# Altium footprint library LibZynqEvalBoard.PcbLib: 75 footprints (part 1 of 5)
Each footprint in its own frame and in the unit in brackets; x right, y up, seen from the top. Pads: shape width x height; smd on the part's side, far side on the other; paste and mask are expansions set on the pad; w line width, h text height; cw(c..) or ccw(c..) is an arc to the next point about the centre after c.
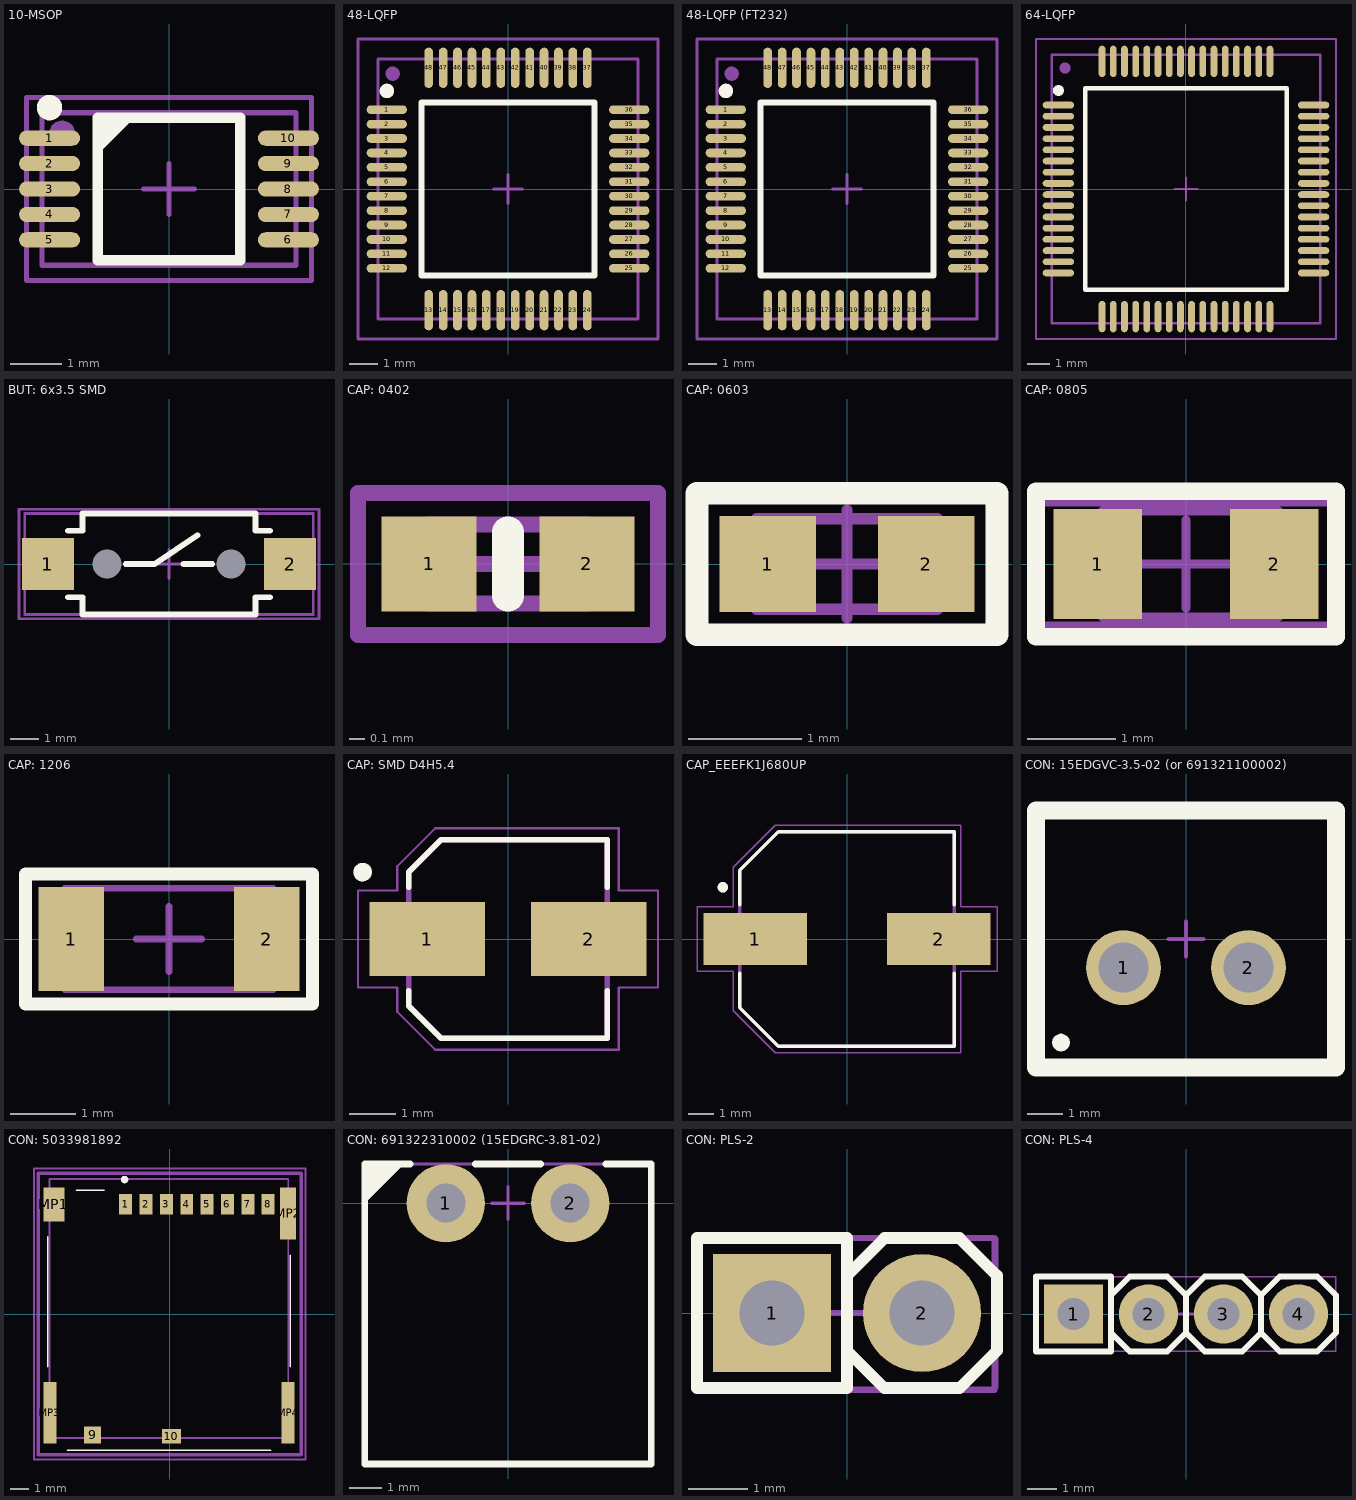
[diagram p0: the footprints below, top view; thin cyan lines are the x and y axes]

## 10-MSOP [mm] "3x3 mm, pitch 0.5 mm"
height 1.1
pads (11):
  rrect100% 1.2x0.3 smd: 1(-2.35,1) 2(-2.35,0.5) 3(-2.35,0) 4(-2.35,-0.5) 5(-2.35,-1) 6(2.35,-1) 7(2.35,-0.5) 8(2.35,0) 9(2.35,0.5) 10(2.35,1)
  round 0.5 on Mech1: ""(-2.1,1.1)
Top Overlay:
  circle w0.25: c-2.35,1.6 r0.125
  region: -1.4,1.4 -1.4,0.68 -0.68,1.4
  lines w0.2: -1.4,-1.4 -1.4,1.4 1.4,1.4 1.4,-1.4 -1.4,-1.4
Top Assembly:
  lines w0.1: -2.5,-1.5 2.5,-1.5 2.5,1.5 -2.5,1.5 -2.5,-1.5
Mechanical 15:
  lines w0.1: -0.5,0 0.5,0 ; 0,-0.5 0,0.5 ; -2.8,-1.8 -2.8,1.8 2.8,1.8 2.8,-1.8 -2.8,-1.8
3D body "TSSOP-10.STEP": height 1.1, standoff 0, extent -2.5,-1.5 2.5,1.5

## 48-LQFP [mm] "QFP, 48-Leads, Body 7x7mm, Pitch 0.5mm, IPC Medium Density"
height 1.6
pads (49):
  oval 1.4x0.3 smd: 1(-4.2,2.75) 2(-4.2,2.25) 3(-4.2,1.75) 4(-4.2,1.25) 5(-4.2,0.75) 6(-4.2,0.25) 7(-4.2,-0.25) 8(-4.2,-0.75) 9(-4.2,-1.25) 10(-4.2,-1.75) 11(-4.2,-2.25) 12(-4.2,-2.75) 25(4.2,-2.75) 26(4.2,-2.25) 27(4.2,-1.75) 28(4.2,-1.25) 29(4.2,-0.75) 30(4.2,-0.25) 31(4.2,0.25) 32(4.2,0.75) 33(4.2,1.25) 34(4.2,1.75) 35(4.2,2.25) 36(4.2,2.75)
  oval 0.3x1.4 smd: 13(-2.75,-4.2) 14(-2.25,-4.2) 15(-1.75,-4.2) 16(-1.25,-4.2) 17(-0.75,-4.2) 18(-0.25,-4.2) 19(0.25,-4.2) 20(0.75,-4.2) 21(1.25,-4.2) 22(1.75,-4.2) 23(2.25,-4.2) 24(2.75,-4.2) 37(2.75,4.2) 38(2.25,4.2) 39(1.75,4.2) 40(1.25,4.2) 41(0.75,4.2) 42(0.25,4.2) 43(-0.25,4.2) 44(-0.75,4.2) 45(-1.25,4.2) 46(-1.75,4.2) 47(-2.25,4.2) 48(-2.75,4.2)
  round 0.5 on Mech1: ""(-4,4)
Top Overlay:
  circle w0.25: c-4.2,3.4 r0.125
  lines w0.2: -3,-3 -3,3 3,3 3,-3 -3,-3
Top Assembly:
  lines w0.1: -4.5,-4.5 -4.5,4.5 4.5,4.5 4.5,-4.5 -4.5,-4.5
Mechanical 15:
  lines w0.1: -0.5,0 0.5,0 ; 0,-0.5 0,0.5 ; -5.2,-5.2 -5.2,5.2 5.2,5.2 5.2,-5.2 -5.2,-5.2
3D body "STM32F334.step": height 1.6, standoff 0, extent -4.5,-4.5 4.5,4.5

## 48-LQFP (FT232) [mm] "QFP, 48-Leads, Body 7x7mm, Pitch 0.5mm, IPC Medium Density"
height 1.6
pads (49):
  oval 1.4x0.3 smd: 1(-4.2,2.75) 2(-4.2,2.25) 3(-4.2,1.75) 4(-4.2,1.25) 5(-4.2,0.75) 6(-4.2,0.25) 7(-4.2,-0.25) 8(-4.2,-0.75) 9(-4.2,-1.25) 10(-4.2,-1.75) 11(-4.2,-2.25) 12(-4.2,-2.75) 25(4.2,-2.75) 26(4.2,-2.25) 27(4.2,-1.75) 28(4.2,-1.25) 29(4.2,-0.75) 30(4.2,-0.25) 31(4.2,0.25) 32(4.2,0.75) 33(4.2,1.25) 34(4.2,1.75) 35(4.2,2.25) 36(4.2,2.75)
  oval 0.3x1.4 smd: 13(-2.75,-4.2) 14(-2.25,-4.2) 15(-1.75,-4.2) 16(-1.25,-4.2) 17(-0.75,-4.2) 18(-0.25,-4.2) 19(0.25,-4.2) 20(0.75,-4.2) 21(1.25,-4.2) 22(1.75,-4.2) 23(2.25,-4.2) 24(2.75,-4.2) 37(2.75,4.2) 38(2.25,4.2) 39(1.75,4.2) 40(1.25,4.2) 41(0.75,4.2) 42(0.25,4.2) 43(-0.25,4.2) 44(-0.75,4.2) 45(-1.25,4.2) 46(-1.75,4.2) 47(-2.25,4.2) 48(-2.75,4.2)
  round 0.5 on Mech1: ""(-4,4)
Top Overlay:
  circle w0.25: c-4.2,3.4 r0.125
  lines w0.2: -3,-3 3,-3 3,3 -3,3 -3,-3
Top Assembly:
  lines w0.1: -4.5,-4.5 4.5,-4.5 4.5,4.5 -4.5,4.5 -4.5,-4.5
Mechanical 15:
  lines w0.1: -0.5,0 0.5,0 ; 0,-0.5 0,0.5 ; -5.2,-5.2 5.2,-5.2 5.2,5.2 -5.2,5.2 -5.2,-5.2
3D body "User Library-FT232HL.step": height 1.53, standoff 0, extent -4.5,-4.512 4.5,4.362

## 64-LQFP [mm] "Thin QFP, 64-Leads, Body 10x10mm, Pitch 0.5mm, IPC Medium Density"
height 1.6
pads (66):
  oval 1.4x0.3 smd: 1(-5.7,3.75) 2(-5.7,3.25) 3(-5.7,2.75) 4(-5.7,2.25) 5(-5.7,1.75) 6(-5.7,1.25) 7(-5.7,0.75) 8(-5.7,0.25) 9(-5.7,-0.25) 10(-5.7,-0.75) 11(-5.7,-1.25) 12(-5.7,-1.75) 13(-5.7,-2.25) 14(-5.7,-2.75) 15(-5.7,-3.25) 16(-5.7,-3.75) 33(5.7,-3.75) 34(5.7,-3.25) 35(5.7,-2.75) 36(5.7,-2.25) 37(5.7,-1.75) 38(5.7,-1.25) 39(5.7,-0.75) 40(5.7,-0.25) 41(5.7,0.25) 42(5.7,0.75) 43(5.7,1.25) 44(5.7,1.75) 45(5.7,2.25) 46(5.7,2.75) 47(5.7,3.25) 48(5.7,3.75)
  oval 0.3x1.4 smd: 17(-3.75,-5.7) 18(-3.25,-5.7) 19(-2.75,-5.7) 20(-2.25,-5.7) 21(-1.75,-5.7) 22(-1.25,-5.7) 23(-0.75,-5.7) 24(-0.25,-5.7) 25(0.25,-5.7) 26(0.75,-5.7) 27(1.25,-5.7) 28(1.75,-5.7) 29(2.25,-5.7) 30(2.75,-5.7) 31(3.25,-5.7) 32(3.75,-5.7) 49(3.75,5.7) 50(3.25,5.7) 51(2.75,5.7) 52(2.25,5.7) 53(1.75,5.7) 54(1.25,5.7) 55(0.75,5.7) 56(0.25,5.7) 57(-0.25,5.7) 58(-0.75,5.7) 59(-1.25,5.7) 60(-1.75,5.7) 61(-2.25,5.7) 62(-2.75,5.7) 63(-3.25,5.7) 64(-3.75,5.7)
  round 0.5 on Top Overlay: ""(-5.7,4.4)
  round 0.5 on Mech1: ""(-5.4,5.4)
Top Overlay:
  lines w0.2: -4.5,-4.5 -4.5,4.5 4.5,4.5 4.5,-4.5 -4.5,-4.5
Top Assembly:
  lines w0.1: -6,-6 -6,6 6,6 6,-6 -6,-6
Mechanical 15:
  lines w0.1: -0.5,0 0.5,0 ; 0,-0.5 0,0.5 ; -6.7,-6.7 -6.7,6.7 6.7,6.7 6.7,-6.7 -6.7,-6.7
3D body "stm32g474.step": height 1.6, standoff 0, extent -6,-6 6,6

## BUT: 6x3.5 SMD [mm]
pads (4):
  rect 1.8x1.8 smd mask+0.075: 1(-4.2,0) 2(4.2,0)
  round 0 hole 1 mask+0.075: ""(-2.15,0) ""(2.15,0)
Top Overlay:
  lines w0.2: -3.5,-1.15 -3,-1.15 -3,-1.75 3,-1.75 3,-1.15 3.5,-1.15 ; -3.5,1.15 -3,1.15 -3,1.75 3,1.75 3,1.15 3.5,1.15 ; -1.5,0 -0.5,0 1,1 ; 0.5,0 1.5,0
Top Assembly:
  lines w0.1: -1.5,0 -0.5,0 1,1 ; 0.5,0 1.25,0 ; -5,-1.75 -5,1.75 5,1.75 5,-1.75 -5,-1.75
Mechanical 15:
  lines w0.1: -0.5,0 0.5,0 ; 0,-0.5 0,0.5 ; -5.2,-1.9 -5.2,1.9 5.2,1.9 5.2,-1.9 -5.2,-1.9
3D body "User Library-DTSMF-32.STEP": height 5.05, standoff 0, extent -5,-1.75 5,1.75

## CAP: 0402 [mm]
height 0.35
pads (2):
  rect 0.6x0.6 smd: 1(-0.5,0) 2(0.5,0)
Top Overlay:
  lines w0.2: 0,-0.2 0,0.2
Top Assembly:
  lines w0.1: -0.5,-0.25 0.5,-0.25 0.5,0.25 -0.5,0.25 -0.5,-0.25
Mechanical 15:
  lines w0.1: -0.25,0 0.25,0 ; 0,-0.25 0,0.25 ; -0.95,-0.45 0.95,-0.45 0.95,0.45 -0.95,0.45 -0.95,-0.45
3D body "chip_0402_r.STEP": height 0.34, standoff -0.02, extent -0.525,-0.25 0.475,0.25
3D body "User Library-0402(1005M) Cap.step": height 0.51, standoff 0, extent -0.508,-0.254 0.508,0.254

## CAP: 0603 [mm]
height 0.45
pads (2):
  rect 0.85x0.85 smd: 1(-0.7,0) 2(0.7,0)
Top Overlay:
  lines w0.2: -1.325,-0.625 -1.325,0.625 1.325,0.625 1.325,-0.625 -1.325,-0.625
Top Assembly:
  lines w0.1: -0.8,-0.4 -0.8,0.4 0.8,0.4 0.8,-0.4 -0.8,-0.4
Mechanical 15:
  lines w0.1: -0.475,0 0.475,0 ; 0,-0.475 0,0.475 ; -1.325,-0.625 1.325,-0.625 1.325,0.625 -1.325,0.625 -1.325,-0.625
3D body "SW3dPS-0603 SMD Capacitor.STEP": height 0.3, standoff 0, extent -0.8,-0.4 0.8,0.4

## CAP: 0805 [mm]
height 0.45
pads (2):
  rect 1x1.25 smd: 1(-1,0) 2(1,0)
Top Overlay:
  lines w0.2: -1.7,-0.825 -1.7,0.825 1.7,0.825 1.7,-0.825 -1.7,-0.825
Top Assembly:
  lines w0.1: -0.949,-0.6 -0.949,0.6 1.05,0.6 1.05,-0.6 -0.949,-0.6
Mechanical 15:
  lines w0.1: -0.5,0 0.5,0 ; 0,-0.5 0,0.5 ; -1.7,-0.7 1.7,-0.7 1.7,0.7 -1.7,0.7 -1.7,-0.7
3D body "SW3dPS-0805 SMD Capacitor.STEP": height 0.78, standoff 0, extent -1,-0.625 1,0.625

## CAP: 1206 [mm]
height 0.6
pads (2):
  rect 1x1.6 smd: 1(-1.5,0) 2(1.5,0)
Top Overlay:
  lines w0.2: -2.2,-1 -2.2,1 2.2,1 2.2,-1 -2.2,-1
Top Assembly:
  lines w0.1: -1.6,-0.775 -1.6,0.775 1.6,0.775 1.6,-0.775 -1.6,-0.775
Mechanical 15:
  lines w0.1: -0.5,0 0.5,0 ; 0,-0.5 0,0.5 ; -2.2,-1 2.2,-1 2.2,1 -2.2,1 -2.2,-1
3D body "SW3dPS-1206 SMD Capacitor.STEP": height 1, standoff 0, extent -1.6,-0.8 1.6,0.8

## CAP: SMD D4H5.4 [mm]
pads (2):
  rect 2.5x1.6 smd: 1(-1.75,0) 2(1.75,0)
Top Overlay:
  circle w0.2: c-3.15,1.45 r0.1
  lines w0.127: -2.15,-1.12 -2.15,-1.45 -1.45,-2.15 2.15,-2.15 2.15,-1.12 ; -2.15,1.12 -2.15,1.45 -1.45,2.15 2.15,2.15 2.15,1.12
Top Assembly:
  circle w0.2: c-3.15,1.45 r0.1
  lines w0.127: -2.15,-1.45 -1.45,-2.15 2.15,-2.15 2.15,2.15 -1.45,2.15 -2.15,1.45 -2.15,-1.45
  text ".Designator" at -5.431,4.056 h3
Mechanical 15:
  lines w0.05: -3.25,-1.05 -2.4,-1.05 -2.4,-1.575 -1.575,-2.4 2.4,-2.4 2.4,-1.05 3.25,-1.05 3.25,1.05 2.4,1.05 2.4,2.4 -1.575,2.4 -2.4,1.575 -2.4,1.05 -3.25,1.05 -3.25,-1.05
3D body "step_temp.STEP": height 5.8, standoff 0, extent -2.5,-2.15 2.5,2.15

## CAP_EEEFK1J680UP [mm]
pads (2):
  rect 4x2 smd: 1(-3.55,0) 2(3.55,0)
Top Overlay:
  circle w0.2: c-4.8,2 r0.1
  lines w0.127: -4.15,-1.32 -4.15,-2.65 -2.65,-4.15 4.15,-4.15 4.15,-1.32 ; -4.15,1.32 -4.15,2.65 -2.65,4.15 4.15,4.15 4.15,1.32
Top 3D Body (Mech13):
  circle w0.2: c-4.8,2 r0.1
  lines w0.127: -4.15,-2.65 -2.65,-4.15 4.15,-4.15 4.15,4.15 -2.65,4.15 -4.15,2.65 -4.15,-2.65
Mechanical 15:
  lines w0.05: -5.8,-1.25 -5.8,1.25 -4.4,1.25 -4.4,2.775 -2.775,4.4 4.4,4.4 4.4,1.25 5.8,1.25 5.8,-1.25 4.4,-1.25 4.4,-4.4 -2.775,-4.4 -4.4,-2.775 -4.4,-1.25 -5.8,-1.25
3D body "step_temp.STEP": height 10.2, standoff 0, extent -4.85,-4.15 4.85,4.15

## CON: 15EDGVC-3.5-02 (or 691321100002) [mm] "Vertical PCB Header, pitch 3.5mm, 02p"
height 9.2
pads (3):
  round 2.1 hole 1.4: 1(-1.75,-0.8) 2(1.75,-0.8)
  round 0.5 on Top Overlay: ""(-3.5,-2.9)
Top Overlay:
  lines w0.5: -4.2,-3.6 4.2,-3.6 4.2,3.6 -4.2,3.6 -4.2,-3.6
Top 3D Body (Mech13):
  lines w0.1: -4.2,-3.6 -4.2,3.6 4.2,3.6 4.2,-3.6 -4.2,-3.6
Mechanical 15:
  lines w0.1: -0.5,0 0.5,0 ; 0,-0.5 0,0.5 ; -4.2,-3.6 4.2,-3.6 4.2,3.6 -4.2,3.6 -4.2,-3.6
3D body "691321100002.stp": height 9.3, standoff -3.4, extent -4.2,-3.6 4.2,3.6

## CON: 5033981892 [mm]
pads (14):
  rect 0.7x1.1 smd: 1(-2.38,5.933) 2(-1.28,5.933) 3(-0.18,5.933) 4(0.92,5.933) 5(2.02,5.933) 6(3.12,5.933) 7(4.22,5.933) 8(5.32,5.933)
  rect 0.9x0.93 smd: 9(-4.17,-6.532)
  rect 1.05x0.78 smd: 10(0.095,-6.607)
  rect 1.14x1.83 smd: MP1(-6.26,5.918)
  rect 0.86x2.8 smd: MP2(6.4,5.433)
  rect 0.7x3.33 smd: MP3(-6.48,-5.332) MP4(6.4,-5.332)
Top Overlay:
  lines w0.1: -6.59,-2.837 -6.59,4.163 ; -5.54,-7.362 5.46,-7.362 ; -5.04,6.688 -3.54,6.688 ; 6.51,-2.837 6.51,3.163
  lines w0.2: -2.54,7.263 ccw(c-2.44,7.263) -2.34,7.263 ccw(c-2.44,7.263) -2.54,7.263
Top Assembly:
  lines w0.1: -6.5,-6.7 -6.5,7.3 6.4,7.3 6.4,-6.7 -6.5,-6.7
Mechanical 15:
  lines w0.2: -7.1,-7.6 7.1,-7.6 7.1,7.6 -7.1,7.6 -7.1,-7.6
Mechanical 20:
  lines w0.1: -7.33,-7.862 7.33,-7.862 7.33,7.863 -7.33,7.863 -7.33,-7.862
3D body "5033981892.stp": height 1.33, standoff 0.05, extent -6.5,-6.725 6.6,7.325

## CON: 691322310002 (15EDGRC-3.81-02) [mm]
pads (2):
  round 2.4 hole 1.2 mask+0.075: 1(-1.905,0) 2(1.905,0)
Top Overlay:
  region: -4.4,0 -3.2,1.2 -4.4,1.2
  lines w0.2: -3,1.2 -4.4,1.2 -4.4,-8 4.4,-8 4.4,1.2 3,1.2 ; -1,1.2 1,1.2
Top Assembly:
  lines w0.1: -4.4,-8 -4.4,1.2 4.4,1.2 4.4,-8 -4.4,-8
Mechanical 15:
  lines w0.1: -0.5,0 0.5,0 ; 0,-0.5 0,0.5 ; -4.4,-8 4.4,-8 4.4,1.2 -4.4,1.2 -4.4,-8
3D body "691322310002 (rev1).stp": height 7.7, standoff -3, extent -4.405,-8 4.405,1.2

## CON: PLS-2 [mm]
height 10
pads (2):
  rect 2x2 hole 1.1: 1(-1.27,0)
  round 2 hole 1.1: 2(1.27,0)
Top Overlay:
  lines w0.2: 0,-0.635 0.635,-1.27 1.905,-1.27 2.54,-0.635 2.54,0.635 1.905,1.27 0.635,1.27 0,0.635 ; -2.54,-1.27 0,-1.27 0,1.27 -2.54,1.27 -2.54,-1.27
Top Assembly:
  lines w0.1: 0,-0.635 0.635,-1.27 1.905,-1.27 2.54,-0.635 2.54,0.635 1.905,1.27 0.635,1.27 0,0.635 ; -2.54,1.27 -2.54,-1.3 2.5,-1.3 2.5,1.27 -2.54,1.27 ; -2.54,1.27 0,1.27 0,-1.27 -2.54,-1.27 -2.54,1.27
Mechanical 15:
  lines w0.05: -2.54,-1.27 -2.54,1.27 2.54,1.27 2.54,-1.27 -2.54,-1.27
  lines w0.1: -0.5,0 0.5,0 ; 0,-0.5 0,0.5
3D body "PLS-2.STEP": height 8.54, standoff -3, extent -2.573,-1.284 2.507,1.256

## CON: PLS-4 [mm] "PLS-40 4 pin header"
height 10
pads (4):
  rect 2x2 hole 1.1: 1(-3.81,0)
  round 2 hole 1.1: 2(-1.27,0) 3(1.27,0) 4(3.81,0)
Top Overlay:
  lines w0.2: -2.54,-0.635 -1.905,-1.27 -0.635,-1.27 0,-0.635 ; -2.54,0.635 -1.905,1.27 -0.635,1.27 0,0.635 ; 0,-0.635 0.635,-1.27 1.905,-1.27 2.54,-0.635 ; 0,-0.635 0,0.635 ; 0,0.635 0.635,1.27 1.905,1.27 2.54,0.635 ; 2.54,-0.635 3.175,-1.27 4.445,-1.27 5.08,-0.635 5.08,0.635 4.445,1.27 3.175,1.27 2.54,0.635 ; 2.54,-0.635 2.54,0.635 ; -5.08,-1.27 -2.54,-1.27 -2.54,1.27 -5.08,1.27 -5.08,-1.27
Top Assembly:
  lines w0.1: -2.54,-0.635 -1.905,-1.27 -0.635,-1.27 0,-0.635 ; -2.54,0.635 -1.905,1.27 -0.635,1.27 0,0.635 ; 0,-0.635 0,0.635 ; 0,-0.635 0.635,-1.27 1.905,-1.27 2.54,-0.635 ; 0,0.635 0.635,1.27 1.905,1.27 2.54,0.635 ; 2.54,-0.635 2.54,0.635 ; 2.54,-0.635 3.175,-1.27 4.445,-1.27 5.08,-0.635 5.08,0.635 4.445,1.27 3.175,1.27 2.54,0.635 ; -5.08,-1.27 -5.08,1.27 -2.54,1.27 -2.54,-1.27 -5.08,-1.27
Mechanical 15:
  lines w0.05: -5.08,-1.27 -5.08,1.27 5.08,1.27 5.08,-1.27 -5.08,-1.27
  lines w0.1: -0.5,0 0.5,0 ; 0,-0.5 0,0.5
3D body "PLS-4.STEP": height 8.54, standoff -3, extent -5.08,-1.27 5.08,1.27